# Altium footprint library resistencias_smd.PCBLIB: 183 footprints (part 11 of 12)
Each footprint in its own frame and in the unit in brackets; x right, y up, seen from the top. Pads: shape width x height; smd on the part's side, far side on the other; paste and mask are expansions set on the pad; w line width, h text height; cw(c..) or ccw(c..) is an arc to the next point about the centre after c.
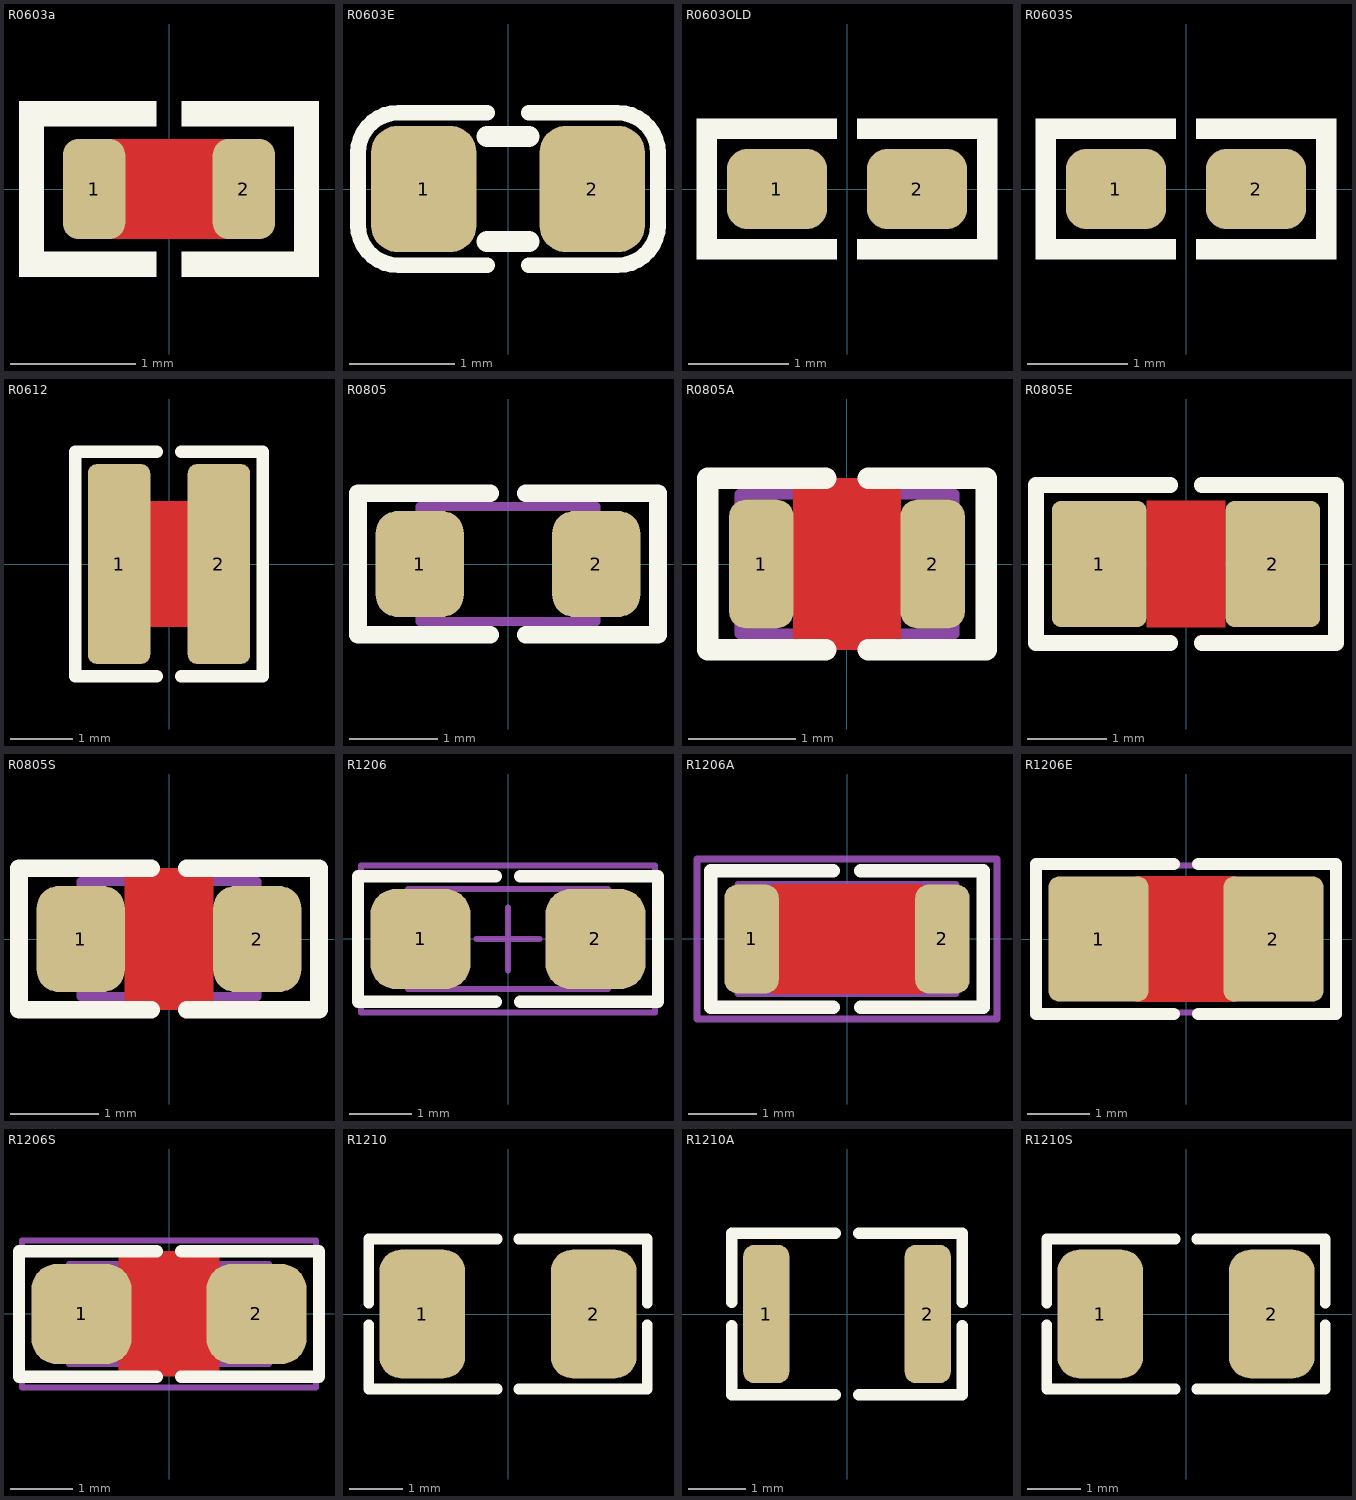
[diagram p10: the footprints below, top view; thin cyan lines are the x and y axes]

## R0603a [mm] "CHIP Resistor 1/10 WATT, 1.6x0.8mm, 0603,  for PCBA"
height 0.6
pads (2):
  rrect50% 0.5x0.8 smd mask+0.075: 1(-0.6,0) 2(0.6,0)
Top Layer:
  pour cut-out: -0.5,0.4 0.5,0.4 0.5,-0.4 -0.5,-0.4
Top Overlay:
  region: 1.2,0.7 1,0.7 1,-0.7 1.2,-0.7
  region: 0.1,0.5 0.1,0.7 1.2,0.7 1.2,0.5
  region: 0.1,-0.5 0.1,-0.7 1.2,-0.7 1.2,-0.5
  region: -0.1,-0.5 -0.1,-0.7 -1.2,-0.7 -1.2,-0.5
  region: -0.1,0.5 -0.1,0.7 -1.2,0.7 -1.2,0.5
  region: -1.2,0.7 -1,0.7 -1,-0.7 -1.2,-0.7
3D body "User Library-RES_1609-0603.step": height 0.56, standoff 0, extent -0.85,-0.4 0.85,0.4

## R0603E [mm] "CHIP Resistor 1/10 WATT, 1.6x0.8mm, 0603, EXPANDED PAD"
height 0.6
pads (2):
  rrect50% 1x1.2 smd mask+0.05: 1(-0.8,0) 2(0.8,0)
Top Overlay:
  lines w0.15: -0.2,-0.725 -1.042,-0.725 cw(c-1.042,-0.342) -1.425,-0.342 -1.425,0.342 cw(c-1.042,0.342) -1.042,0.725 -0.2,0.725 ; 0.2,-0.725 1.042,-0.725 ccw(c1.042,-0.342) 1.425,-0.342 1.425,0.342 ccw(c1.042,0.342) 1.042,0.725 0.2,0.725
  lines w0.2: -0.2,-0.5 0.2,-0.5 ; -0.2,0.5 0.2,0.5
3D body "User Library-RES_1609-0603.step": height 0.56, standoff 0, extent -0.85,-0.4 0.85,0.4

## R0603OLD [mm] "CHIP Resistor 1/10 WATT, 1.6x0.8mm, 0603, 1608"
height 0.6
pads (2):
  rrect50% 1x0.8 smd mask+0.05: 1(-0.7,0) 2(0.7,0)
Top Overlay:
  region: -0.1,-0.5 -0.1,-0.7 -1.5,-0.7 -1.5,-0.5
  region: -0.1,0.5 -0.1,0.7 -1.5,0.7 -1.5,0.5
  region: -1.5,0.7 -1.3,0.7 -1.3,-0.7 -1.5,-0.7
  region: 1.5,0.7 1.3,0.7 1.3,-0.7 1.5,-0.7
  region: 0.1,0.5 0.1,0.7 1.5,0.7 1.5,0.5
  region: 0.1,-0.5 0.1,-0.7 1.5,-0.7 1.5,-0.5
3D body "User Library-RES_1609-0603.step": height 0.56, standoff 0, extent -0.85,-0.4 0.85,0.4

## R0603S [mm] "CHIP Resistor 1/10 WATT, 1.6x0.8mm, 0603, 1608, soldered"
height 0.6
pads (2):
  rrect50% 1x0.8 smd mask+0.05: 1(-0.7,0) 2(0.7,0)
Top Overlay:
  region: -0.1,-0.5 -0.1,-0.7 -1.5,-0.7 -1.5,-0.5
  region: -0.1,0.5 -0.1,0.7 -1.5,0.7 -1.5,0.5
  region: -1.5,0.7 -1.3,0.7 -1.3,-0.7 -1.5,-0.7
  region: 1.5,0.7 1.3,0.7 1.3,-0.7 1.5,-0.7
  region: 0.1,0.5 0.1,0.7 1.5,0.7 1.5,0.5
  region: 0.1,-0.5 0.1,-0.7 1.5,-0.7 1.5,-0.5
3D body "r0603_Res1-1.step": height 0.8, standoff 0, extent -1.23,-0.4 1.23,0.4

## R0612 [mm] "CHIP RESISTOR 1/4 WATT, Body 1.6x3.2mm, 1632, 0612"
height 2
pads (2):
  rrect30% 1x3.2 smd mask+0.075: 1(-0.8,0) 2(0.8,0)
Top Layer:
  pour cut-out: -0.8,1 -0.8,-1 0.8,-1 0.8,1
Top Overlay:
  lines w0.2: -0.2,-1.8 -1.5,-1.8 -1.5,1.8 -0.2,1.8 ; 0.2,-1.8 1.5,-1.8 1.5,1.8 0.2,1.8
Mechanical 15:
  lines w0.1: -0.5,0 0.5,0 ; 0,-0.5 0,0.5
3D body "User Library-wk732b.step": height 0.61, standoff 0, extent -0.8,-1.6 0.8,1.6

## R0805 [mm] "CHIP RESISTOR 1/8 WATT ,2.0X1.3mm, 0805, 2012"
pads (2):
  rrect50% 1x1.2 smd mask+0.05: 1(-1,0) 2(1,0)
Top Overlay:
  lines w0.2: -0.2,-0.8 -1.7,-0.8 -1.7,0.8 -0.2,0.8 ; 0.2,-0.8 1.7,-0.8 1.7,0.8 0.2,0.8
Mechanical 13:
  lines w0.1: -1,-0.65 1,-0.65 1,0.65 -1,0.65 -1,-0.65
3D body "User Library-RES_2013-0805.step": height 0.76, standoff 0, extent -1.15,-0.675 1.15,0.675

## R0805A [mm] "CHIP RESISTOR 1/8 WATT ,2.0X1.3mm, 0805, for PCBA"
pads (2):
  rrect50% 0.6x1.2 smd mask+0.075: 1(-0.8,0) 2(0.8,0)
Top Layer:
  pour cut-out: -0.5,0.8 0.5,0.8 0.5,-0.8 -0.5,-0.8
Top Overlay:
  lines w0.2: -0.2,-0.8 -1.3,-0.8 -1.3,0.8 -0.2,0.8 ; 0.2,-0.8 1.3,-0.8 1.3,0.8 0.2,0.8
Mechanical 13:
  lines w0.1: -1,-0.65 1,-0.65 1,0.65 -1,0.65 -1,-0.65
3D body "User Library-RES_2013-0805.step": height 0.76, standoff 0, extent -1.15,-0.675 1.15,0.675

## R0805E [mm] "CHIP RESISTOR 1/8 WATT ,2.0X1.3mm, 0805, EXPANDED PAD"
pads (2):
  rrect20% 1.2x1.6 smd mask+0.1: 1(-1.1,0) 2(1.1,0)
Top Layer:
  pour cut-out: -0.5,0.8 0.5,0.8 0.5,-0.8 -0.5,-0.8
Top Overlay:
  lines w0.2: -0.2,-1 -1.9,-1 -1.9,1 -0.2,1 ; 0.2,-1 1.9,-1 1.9,1 0.2,1
3D body "User Library-RES_2013-0805.step": height 0.76, standoff 0, extent -1.15,-0.675 1.15,0.675

## R0805S [mm] "CHIP RESISTOR 1/8 WATT ,2.0X1.3mm, 0805, 2012, soldered"
pads (2):
  rrect50% 1x1.2 smd mask+0.05: 1(-1,0) 2(1,0)
Top Layer:
  pour cut-out: -0.5,0.8 0.5,0.8 0.5,-0.8 -0.5,-0.8
Top Overlay:
  lines w0.2: -0.2,-0.8 -1.7,-0.8 -1.7,0.8 -0.2,0.8 ; 0.2,-0.8 1.7,-0.8 1.7,0.8 0.2,0.8
Mechanical 13:
  lines w0.1: -1,-0.65 1,-0.65 1,0.65 -1,0.65 -1,-0.65
3D body "r0805_Res1.step": height 0.8, standoff 0, extent -1.4,-0.625 1.4,0.625

## R1206 [mm] "CHIP RESISTOR 1/4 WATT, Body 3.2x1.6mm,1206, 3216"
height 2
pads (2):
  rrect50% 1.6x1.6 smd mask+0.075: 1(-1.4,0) 2(1.4,0)
Top Overlay:
  lines w0.2: -2.4,-1 -0.2,-1 ; -2.4,-1 -2.4,1 -0.2,1 ; 0.2,-1 2.4,-1 ; 0.2,1 2.4,1 2.4,-1
Mechanical 13:
  lines w0.1: -1.6,-0.8 1.6,-0.8 1.6,0.8 -1.6,0.8 -1.6,-0.8
Mechanical 15:
  lines w0.1: -0.5,0 0.5,0 ; 0,-0.5 0,0.5 ; -2.35,-1.175 2.35,-1.175 2.35,1.175 -2.35,1.175 -2.35,-1.175
3D body "User Library-RES_3216-1206.step": height 0.85, standoff 0, extent -1.675,-0.865 1.675,0.865

## R1206A [mm] "CHIP RESISTOR 1/4 WATT, Body 3.2x1.6mm,1206, for PCBA"
height 2
pads (2):
  rrect50% 0.8x1.6 smd mask+0.075: 1(-1.4,0) 2(1.4,0)
Top Layer:
  pour cut-out: -1.1,0.8 -1.1,-0.8 1.1,-0.8 1.1,0.8
Top Overlay:
  lines w0.2: -0.2,-1 -2,-1 -2,1 -0.2,1 ; 0.2,-1 2,-1 2,1 0.2,1
Mechanical 13:
  lines w0.1: -1.6,-0.8 -1.6,0.8 1.6,0.8 1.6,-0.8 -1.6,-0.8
Mechanical 15:
  lines w0.1: -0.5,0 0.5,0 ; 0,-0.5 0,0.5 ; -2.2,-1.175 -2.2,1.175 2.2,1.175 2.2,-1.175 -2.2,-1.175
3D body "User Library-RES_3216-1206.step": height 0.85, standoff 0, extent -1.675,-0.865 1.675,0.865

## R1206E [mm] "CHIP RESISTOR 1/4 WATT, EXPANDED PAD"
height 2
pads (2):
  rrect20% 1.6x2 smd mask+0.075: 1(-1.4,0) 2(1.4,0)
Top Layer:
  pour cut-out: -0.8,1 -0.8,-1 0.8,-1 0.8,1
Top Overlay:
  lines w0.2: -0.2,-1.2 -2.4,-1.2 -2.4,1.2 -0.2,1.2 ; 0.2,-1.2 2.4,-1.2 2.4,1.2 0.2,1.2
Mechanical 13:
  lines w0.1: -1.6,-0.8 1.6,-0.8 1.6,0.8 -1.6,0.8 -1.6,-0.8
Mechanical 15:
  lines w0.1: -0.5,0 0.5,0 ; 0,-0.5 0,0.5 ; -2.35,-1.175 2.35,-1.175 2.35,1.175 -2.35,1.175 -2.35,-1.175
3D body "User Library-RES_3216-1206.step": height 0.85, standoff 0, extent -1.675,-0.865 1.675,0.865

## R1206S [mm] "CHIP RESISTOR 1/4 WATT, Body 3.2x1.6mm,1206, 3216, soldered"
height 2
pads (2):
  rrect50% 1.6x1.6 smd mask+0.075: 1(-1.4,0) 2(1.4,0)
Top Layer:
  pour cut-out: -0.8,1 -0.8,-1 0.8,-1 0.8,1
Top Overlay:
  lines w0.2: -2.4,-1 -0.2,-1 ; -2.4,-1 -2.4,1 -0.2,1 ; 0.2,-1 2.4,-1 ; 0.2,1 2.4,1 2.4,-1
Mechanical 13:
  lines w0.1: -1.6,-0.8 1.6,-0.8 1.6,0.8 -1.6,0.8 -1.6,-0.8
Mechanical 15:
  lines w0.1: -0.5,0 0.5,0 ; 0,-0.5 0,0.5 ; -2.35,-1.175 2.35,-1.175 2.35,1.175 -2.35,1.175 -2.35,-1.175
3D body "r1206_Res1.step": height 1.25, standoff 0, extent -2.27,-0.8 2.27,0.8

## R1210 [mm] "CHIP RESISTOR 1/2 WATT, Body 3.2x2.5mm,1210, 3225"
height 0.7
pads (2):
  rrect50% 1.6x2.4 smd mask+0.075: 1(-1.6,0) 2(1.6,0)
Top Overlay:
  lines w0.2: -2.6,-0.2 -2.6,-1.4 -0.2,-1.4 ; -2.6,0.2 -2.6,1.4 -0.2,1.4 ; 0.2,-1.4 2.6,-1.4 2.6,-0.2 ; 0.2,1.4 2.6,1.4 2.6,0.2
3D body "RES 1210 (3225 metric).STEP": height 0.69, standoff -0.01, extent -1.7,-1.35 1.7,1.35

## R1210A [mm] "CHIP RESISTOR 1/2 WATT, Body 3.2x2.5mm,1210, for PCBA"
height 0.7
pads (2):
  rrect50% 0.8x2.4 smd mask+0.075: 1(-1.4,0) 2(1.4,0)
Top Overlay:
  lines w0.2: -2,-0.2 -2,-1.4 -0.2,-1.4 ; -2,0.2 -2,1.4 -0.2,1.4 ; 0.2,-1.4 2,-1.4 2,-0.2 ; 0.2,1.4 2,1.4 2,0.2
3D body "RES 1210 (3225 metric).STEP": height 0.69, standoff -0.01, extent -1.7,-1.35 1.7,1.35

## R1210S [mm] "CHIP RESISTOR 1/2 WATT, Body 3.2x2.5mm,1210, 3225, soldered"
height 0.7
pads (2):
  rrect50% 1.6x2.4 smd mask+0.075: 1(-1.6,0) 2(1.6,0)
Top Overlay:
  lines w0.2: -2.6,-0.2 -2.6,-1.4 -0.2,-1.4 ; -2.6,0.2 -2.6,1.4 -0.2,1.4 ; 0.2,-1.4 2.6,-1.4 2.6,-0.2 ; 0.2,1.4 2.6,1.4 2.6,0.2
3D body "r1210_Res1.step": height 1.61, standoff 0, extent -2.47,-1.25 2.47,1.25